# EAGLE library part JB15 (library switch-nkk)
MOMENTARY SWITCH WITH LED
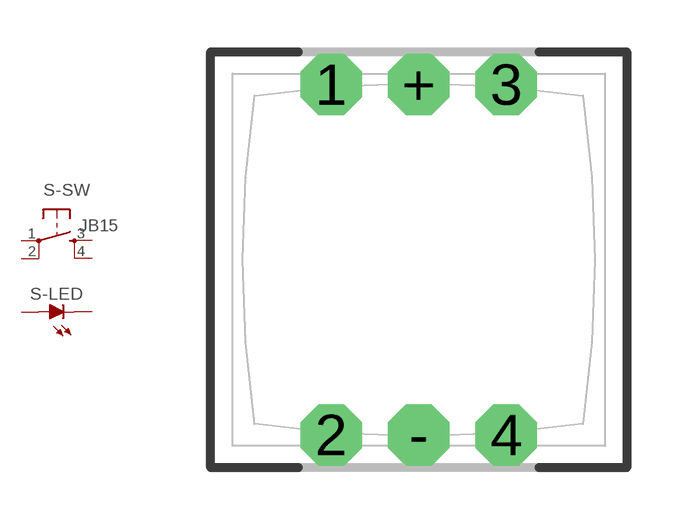
[diagram p4: symbol with the pads of JB; footprint JB]

Designator prefix S; gates -SW=JB15_SW -LED=JB15_LED

## JB15  [JB]
1  -SW:P  pas
2  -SW:P1  pas
3  -SW:S  pas
4  -SW:S1  pas
+  -LED:A  pas
-  -LED:C  pas

## Footprint JB (pad centres in mm)
JB Series - LED backlight
drill 1.016 pad 1.778 octagon: 1 -2.54,5.08; 2 -2.54,-5.08; 3 2.54,5.08; 4 2.54,-5.08; + 0,5.08; - 0,-5.08